# EAGLE library part MAX44000 (library Wisp5_Harvester_Motor-driver_V2)
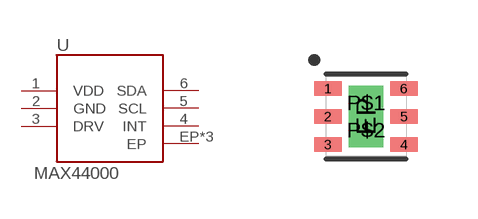
[diagram p4: symbol with the pads of 6OTDFN-EP; footprint 6OTDFN-EP]

Designator prefix -

## MAX44000  [6OTDFN-EP]
1  VDD
2  GND
3  DRV
4  INT
5  SCL
6  SDA
EP  EP
P$1  EP
P$2  EP

## Footprint 6OTDFN-EP (pad centres in mm)
smd 0.68 x 0.36: 1 0.05,1.7; 2 0.05,1; 3 0.05,0.3; 4 1.95,0.3; 5 1.95,1; 6 1.95,1.7
smd 0.71 x 1.4: EP 1,1
drill 0.35 pad 0.71 square: P$1 1,1.34; P$2 1,0.66